# Altium footprint library PcbLib.PcbLib: 13 footprints
Each footprint in its own frame and in the unit in brackets; x right, y up, seen from the top. Pads: shape width x height; smd on the part's side, far side on the other; paste and mask are expansions set on the pad; w line width, h text height; cw(c..) or ccw(c..) is an arc to the next point about the centre after c.
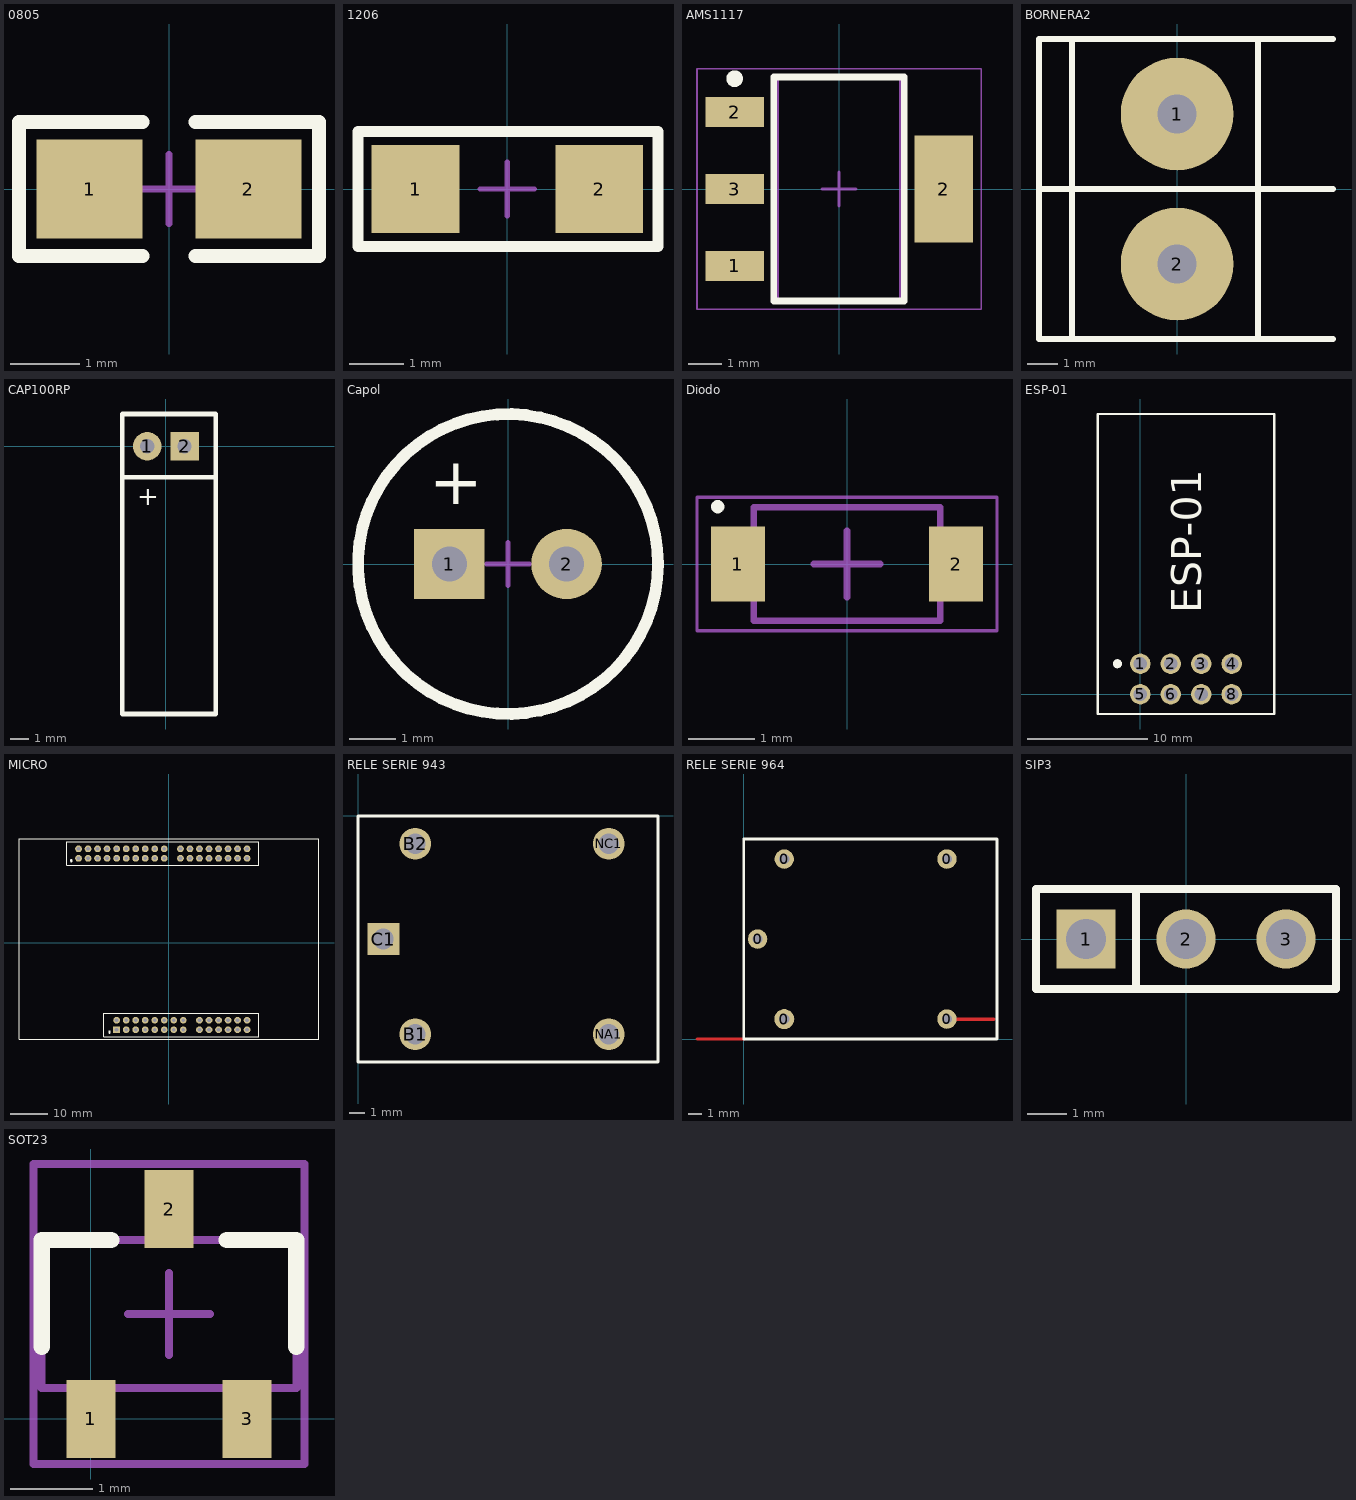
[diagram p0: the footprints below, top view; thin cyan lines are the x and y axes]

## 0805 [mil] "Pasivo 0805"
height 27.56
pads (2):
  rect 60x56 smd: 1(-45,0) 2(45,0)
Top Overlay:
  lines w7.87: -85,-38 -85,38 -15,38 ; -84,-38 -15,-38 ; 15,-38 85,-38 85,38 15,38
Mechanical 15:
  lines w3.94: -19.69,0 19.68,0 ; 0,-19.68 0,19.68
3D body: height 15.35, standoff -0.79, extent -39.5,-24.5 39.24,24.71

## 1206 [mil] "Pasivo 1206"
height 27.56
pads (2):
  rect 64x64 smd: 1(-67,0) 2(67,0)
Top Overlay:
  lines w7.87: -109,-42 110,-42 110,42 -109,42 -109,-42
Mechanical 15:
  lines w3.94: -19.68,0 19.69,0 ; 0,-19.68 0,19.69
3D body: height 19.68, standoff -0.39, extent -62.5,-31.5 63.48,31.49

## AMS1117 [mm] "SOT223, 4-Leads, Body 6,50x7,00mm (avg), Pitch 2,30mm, IPC Medium Density"
height 1.8
pads (4):
  rect 1.75x0.9 smd: 1(-3.125,-2.3) 2(-3.125,2.3) 3(-3.125,0)
  rect 1.75x3.2 smd: 2(3.125,0)
Top Overlay:
  circle w0.25: c-3.125,3.3 r0.125
  lines w0.2: -1.95,-3.35 1.95,-3.35 1.95,3.35 -1.95,3.35 -1.95,-3.35
Mechanical 13:
  lines w0.1: -1.85,-3.35 1.85,-3.35 1.85,3.35 -1.85,3.35 -1.85,-3.35
Mechanical 15:
  lines w0.05: -4.25,-3.6 4.25,-3.6 4.25,3.6 -4.25,3.6 -4.25,-3.6
  lines w0.1: -0.5,0 0.5,0 ; 0,-0.5 0,0.5
3D body: height 1.7, standoff 0.02, extent -3.48,-3.25 3.48,3.25

## BORNERA2 [mm] "Bornera con Tornillos 5mm separaci�n"
pads (2):
  round 3.75 hole 1.3: 1(0,2.5) 2(0,-2.5)
Top Overlay:
  lines w0.2: -4.6,0 5.2,0 ; -3.5,-5 -3.5,5 ; 2.7,-5 2.7,5 ; 5.2,-5 -4.6,-5 -4.6,5 5.2,5
3D body: height 10, standoff -2.28, extent -3.763,-4.892 3.937,5.607

## CAP100RP [mil] "Body diameter 5mm"
pads (2):
  round 60 hole 30: 1(-39.37,0)
  rect 60x60 hole 30: 2(39.37,0)
Top Overlay:
  lines w10: -91,-65.26 99,-65.26 ; -92,-565 -92,-20 -92,68 105,68 105,-565 -92,-565
  text "+" at -60,-125 h40
3D body: height 219.57, standoff 17.06, extent -97.47,-566 107.47,-65

## Capol [mil] "Body diameter 6.5mm"
pads (2):
  rect 60x60 hole 30: 1(-50,0)
  round 60 hole 30: 2(50,0)
Top Overlay:
  circle w10: c0,0 r127.95
  text "+" at -67,51 h40
Mechanical 15:
  lines w3.94: -18.7,0 18.7,0 ; 0,-18.7 0,18.7
3D body: height 453.76, standoff -118.67, extent -124,-125.02 126.03,125.02

## Diodo [mm] "SODFL, 2-Leads, Body 1,60x3,60mm, IPC Medium Density"
height 1.3
pads (2):
  rect 0.81x1.12 smd: 1(-1.635,0) 2(1.635,0)
Top Overlay:
  circle w0.1: c-1.94,0.86 r0.05
Mechanical 13:
  lines w0.1: -1.4,-0.85 -1.4,0.85 1.4,0.85 1.4,-0.85 -1.4,-0.85
Mechanical 15:
  lines w0.05: -2.25,-1 -2.25,1 2.25,1 2.25,-1 -2.25,-1
  lines w0.1: -0.5,0 0.5,0 ; 0,-0.5 0,0.5
3D body: height 1.3, standoff 0, extent -1.4,-0.85 1.4,0.85

## ESP-01 [mm]
pads (8):
  round 1.7 hole 1.1: 1(0,2.54) 2(2.54,2.54) 3(5.08,2.54) 4(7.62,2.54) 5(0,0) 6(2.54,0) 7(5.08,0) 8(7.62,0)
Top Overlay:
  circle w0.254: c-1.905,2.54 r0.254
  circle w0.254: c-1.905,2.54 r0.125
  lines w0.2: -3.556,-1.651 -3.556,23.368 11.176,23.368 11.176,-1.651 -3.556,-1.651
  text "ESP-01" at 5.08,6.731 h2.5
3D body: height 14.88, standoff 3.2, extent -3.429,-1.524 11.071,23.276
3D body: height 8.93, standoff -2.77, extent -1.279,-1.397 6.359,3.683
3D body: height 8.93, standoff -2.77, extent 1.261,-1.397 8.899,3.683

## MICRO [mm]
pads (64):
  rect 1.8x1.8 hole 1: 1(-13.843,-23.241)
  round 1.8 hole 1: 2(-13.843,-20.701) 3(-11.303,-23.241) 4(-11.303,-20.701) 5(-8.763,-23.241) 6(-8.763,-20.701) 7(-6.223,-23.241) 8(-6.223,-20.701) 9(-3.683,-23.241) 10(-3.683,-20.701) 11(-1.143,-23.241) 12(-1.143,-20.701) 13(1.397,-23.241) 14(1.397,-20.701) 15(3.937,-23.241) 16(3.937,-20.701) 17(8.255,-23.241) 18(8.255,-20.701) 19(10.795,-23.241) 20(10.795,-20.701) 21(13.335,-23.241) 22(13.335,-20.701) 23(15.875,-23.241) 24(15.875,-20.701) 25(18.415,-23.241) 26(18.415,-20.701) 27(20.955,-23.241) 28(20.955,-20.701) 29(-24.003,22.479) 30(-24.003,25.019) 31(-21.463,22.479) 32(-21.463,25.019) 33(-18.923,22.479) 34(-18.923,25.019) 35(-16.383,22.479) 36(-16.383,25.019) 37(-13.843,22.479) 38(-13.843,25.019) 39(-11.303,22.479) 40(-11.303,25.019) 41(-8.763,22.479) 42(-8.763,25.019) 43(-6.223,22.479) 44(-6.223,25.019) 45(-3.683,22.479) 46(-3.683,25.019) 47(-1.143,22.479) 48(-1.143,25.019) 49(3.175,22.479) 50(3.175,25.019) 51(5.715,22.479) 52(5.715,25.019) 53(8.255,22.479) 54(8.255,25.019) 55(10.795,22.479) 56(10.795,25.019) 57(13.335,22.479) 58(13.335,25.019) 59(15.875,22.479) 60(15.875,25.019) 61(18.415,22.479) 62(18.415,25.019) 63(20.955,22.479) 64(20.955,25.019)
Top Overlay:
  circle w0.254: c-15.836,-23.876 r0.125
  circle w0.254: c-15.748,-23.876 r0.254
  circle w0.254: c-25.996,21.844 r0.125
  circle w0.254: c-25.908,21.844 r0.254
  lines w0.2: 5.08,-25.146 24.13,-25.146 24.13,-18.796 5.08,-18.796 ; 6.858,-25.146 -17.272,-25.146 -17.272,-18.796 6.858,-18.796 ; -27.178,20.574 24.13,20.574 24.13,26.924 -27.178,26.924 -27.178,20.574
  lines w0.254: -39.878,-25.781 -39.878,27.719 ; -39.878,27.686 40.122,27.686 ; -39.868,-25.781 40.132,-25.781 40.132,27.719
3D body: height 1.5, standoff -10.1, extent -25.273,21.209 -17.653,26.289
3D body: height 1.5, standoff -10.1, extent -17.653,21.209 -10.033,26.289
3D body: height 1.5, standoff -10.1, extent -10.033,21.209 -2.413,26.289
3D body: height 1.5, standoff -10.1, extent -7.493,21.209 0.127,26.289
3D body: height 1.5, standoff -10.1, extent 1.905,21.209 9.525,26.289
3D body: height 1.5, standoff -10.1, extent 9.525,21.209 17.145,26.289
3D body: height 1.5, standoff -10.1, extent 14.605,21.209 22.225,26.289
3D body: height 1.5, standoff -10.1, extent -15.113,-24.511 -7.493,-19.431
3D body: height 1.5, standoff -10.1, extent -7.493,-24.511 0.127,-19.431
3D body: height 1.5, standoff -10.1, extent -2.413,-24.511 5.207,-19.431
3D body: height 1.5, standoff -10.1, extent 6.985,-24.511 14.605,-19.431
3D body: height 1.5, standoff -10.1, extent 14.605,-24.511 22.225,-19.431

## RELE SERIE 943 [mm]
pads (5):
  round 2 hole 1.3: B1(3.6,-13.75) B2(3.6,-1.75) NA1(15.8,-13.75) NC1(15.8,-1.75)
  rect 2x2 hole 1.3: C1(1.6,-7.75)
Top Overlay:
  lines w0.2: 0,-15.5 18.9,-15.5 18.9,0 0,0 0,-15.5

## RELE SERIE 964 [mm]
pads (5):
  round 1.45 hole 0.762: 0(1.048,7.493) 0(3.044,13.493) 0(15.244,1.493) 0(15.244,13.493)
  round 1.5 hole 0.762: 0(3.044,1.493)
Top Layer:
  lines w0.254: -3.5,0 0,0 ; 15.244,1.493 18.744,1.493
Top Overlay:
  lines w0.2: 0,0 0,15 19,15 19,0 0,0

## SIP3 [mm]
pads (3):
  rect 1.5x1.5 hole 1.016: 1(-2.54,0)
  round 1.5 hole 1.016: 2(0,0) 3(2.54,0)
Top Overlay:
  lines w0.2: -1.27,-1.27 -1.27,1.27 ; -3.81,-1.27 -3.81,1.27 3.81,1.27 3.81,-1.27 -3.81,-1.27
3D body: height 8.38, standoff -2.54, extent -3.81,-1.295 3.81,1.245

## SOT23 [mm]
pads (3):
  rect 0.6x0.95 smd: 1(0,0) 2(0.95,2.55) 3(1.9,0)
Top Overlay:
  lines w0.2: -0.6,0.875 -0.6,2.175 0.25,2.175 ; 1.65,2.175 2.5,2.175 2.5,0.875
Mechanical 13:
  lines w0.1: -0.6,0.375 -0.6,2.175 2.5,2.175 2.5,0.375 -0.6,0.375
Mechanical 15:
  lines w0.1: 0.45,1.275 1.45,1.275 ; 0.95,0.775 0.95,1.775 ; -0.7,-0.55 -0.7,3.1 2.6,3.1 2.6,-0.55 -0.7,-0.55
3D body: height 1, standoff -0.1, extent -0.533,-0.254 2.467,2.884